# Altium schematic symbol library FIDUCIAL.SchLib: 1 symbol
Pins are listed as number, name and electrical type; pins without a type are passive.

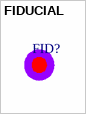
[diagram p0: symbol FIDUCIAL]

## FIDUCIAL
designator FID?  (no BOM)